# Altium footprint library 7762751.PcbLib: 1 footprints
Each footprint in its own frame and in the unit in brackets; x right, y up, seen from the top. Pads: shape width x height; smd on the part's side, far side on the other; paste and mask are expansions set on the pad; w line width, h text height; cw(c..) or ccw(c..) is an arc to the next point about the centre after c.
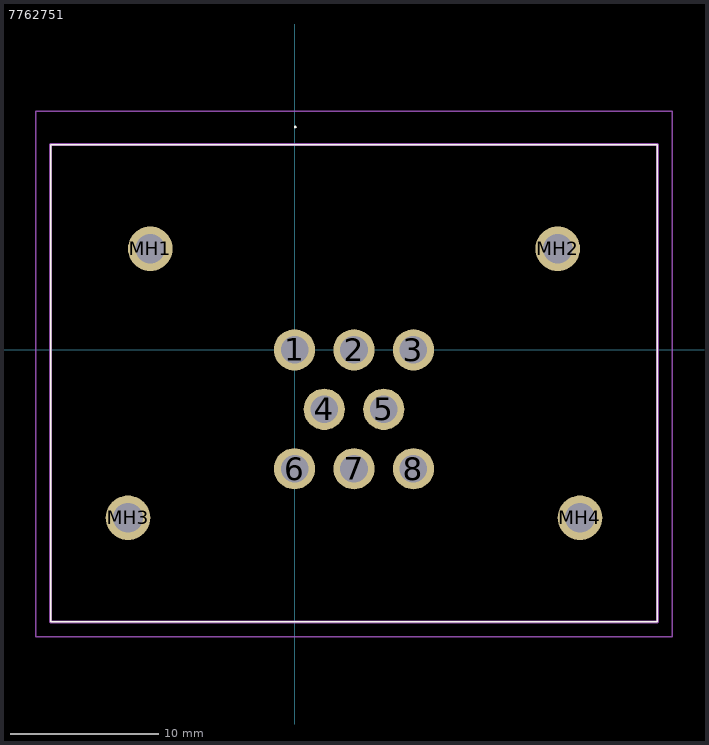
[diagram p0: the footprint, top view; thin cyan lines are the x and y axes]

## 7762751 [mm]
pads (12):
  round 2.775 hole 1.85: 1(0,0) 2(4,0) 3(8,0) 4(2,-4) 5(6,-4) 6(0,-8) 7(4,-8) 8(8,-8)
  round 3 hole 2: MH1(-9.7,6.8) MH2(17.7,6.8) MH3(-11.2,-11.3) MH4(19.2,-11.3)
Top Overlay:
  lines w0.1: 0,15 0,15 ; 0,15 ccw(c0.05,15) 0.1,15 ; 0,15 cw(c0.05,15) 0.1,15 ; 0.1,15 0.1,15 ; -16.4,-18.3 24.4,-18.3 24.4,13.8 -16.4,13.8 -16.4,-18.3
Mechanical 15:
  lines w0.2: -16.4,-18.3 24.4,-18.3 24.4,13.8 -16.4,13.8 -16.4,-18.3
Mechanical 20:
  lines w0.1: -17.4,-19.3 25.4,-19.3 25.4,16.05 -17.4,16.05 -17.4,-19.3